# EAGLE library part 4816P-1-121LF (library 4816P-1-121LF)
Res Thick Film NET 68K Ohm 2% 1.28W ±100ppm/C ISOL Molded 16-Pin SOM Gull Wing SMD Automotive T/R Check availability <https://pricing.snapeda.com/parts/4816P-1-121LF/Bourns/view-part?ref=eda>
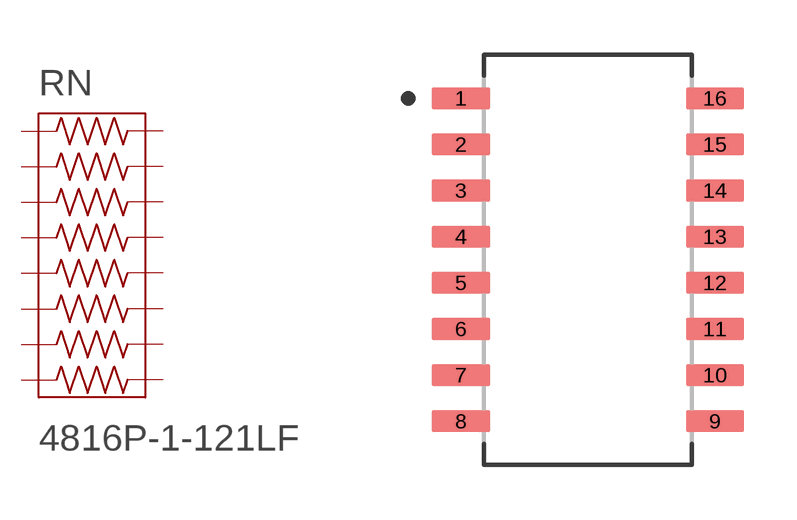
[diagram p0: symbol with the pads of SOIC127P762X240-16N; footprint SOIC127P762X240-16N]

Designator prefix RN

## 4816P-1-121LF (Availability: In Stock; Description: 120 Ohm ±2% 160mW Power Per Element Isolated 8 Resistor Network/Array ±100ppm/°C 16-SOIC (0.220, 5.59mm Width); MF: Bourns; MP: 4816P-1-121LF; Package: SOIC-16 Bourns; Price: None; Purchase-URL: https://pricing.snapeda.com/search/part/4816P-1-121LF/?ref=eda)  [SOIC127P762X240-16N]
1  1  pas
2  2  pas
3  3  pas
4  4  pas
5  5  pas
6  6  pas
7  7  pas
8  8  pas
9  9  pas
10  10  pas
11  11  pas
12  12  pas
13  13  pas
14  14  pas
15  15  pas
16  16  pas

## Footprint SOIC127P762X240-16N (pad centres in mm)
Res Thick Film NET 68K Ohm 2% 1.28W ±100ppm/C ISOL Molded 16-Pin SOM Gull Wing SMD Automotive T/R
smd 1.59 x 0.6: 1 -3.495,4.445; 2 -3.495,3.175; 3 -3.495,1.905; 4 -3.495,0.635; 5 -3.495,-0.635; 6 -3.495,-1.905; 7 -3.495,-3.175; 8 -3.495,-4.445; 9 3.495,-4.445; 10 3.495,-3.175; 11 3.495,-1.905; 12 3.495,-0.635; 13 3.495,0.635; 14 3.495,1.905; 15 3.495,3.175; 16 3.495,4.445